# EAGLE library part HD44780 (library mru-led)
LCD Display Connector 4-bit databus fuer HD44780 display
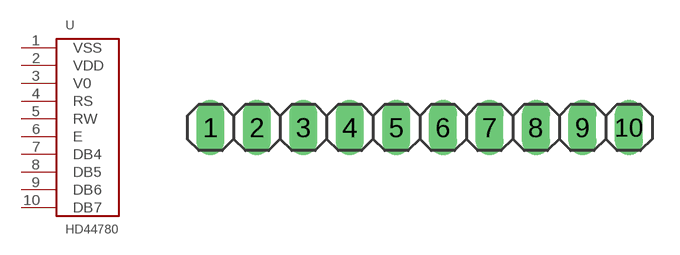
[diagram p6: symbol with the pads of 1X10; footprint 1X10]

Designator prefix -

## HD44780  [1X10]
1  VSS  pwr
2  VDD  pwr
3  V0  pwr
4  RS  in
5  RW  in
6  E  in
7  DB4
8  DB5
9  DB6
10  DB7

## Footprint 1X10 (pad centres in mm)
PIN HEADER
drill 1.016 long: 1 -11.43,0; 2 -8.89,0; 3 -6.35,0; 4 -3.81,0; 5 -1.27,0; 6 1.27,0; 7 3.81,0; 8 6.35,0; 9 8.89,0; 10 11.43,0